# EAGLE library part LM5114_DBV_6 (library packages(ti))
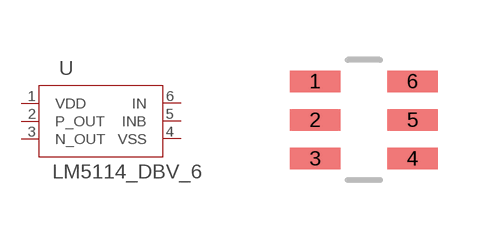
[diagram p22: symbol with the pads of MF06A; footprint MF06A]

Designator prefix U

## LM5114_DBV_6 (BASEPN: LM5114; DATASHEETURL: http://www.ti.com/lit/ds/symlink/lm5114.pdf; DESCRIPTION: Single 7.6A Peak Current Low-Side Gate Driver; MANUFACTURER: Texas Instruments; MANUFACTURER_PART_NUMBER: lm5114_dbv_6; NSC_PACKAGEREFERENCE: MF06A; VENDOR: Texas Instruments)  [MF06A]
1  VDD  pwr
2  P_OUT  out
3  N_OUT  out
4  VSS  pwr
5  INB  in
6  IN  in

## Footprint MF06A (pad centres in mm)
smd 1.27 x 0.533: 1 -1.219,0.965; 2 -1.219,0; 3 -1.219,-0.965; 4 1.219,-0.965; 5 1.219,0; 6 1.219,0.965